# Altium footprint library 电源芯片.PcbLib: 1 footprints
Each footprint in its own frame and in the unit in brackets; x right, y up, seen from the top. Pads: shape width x height; smd on the part's side, far side on the other; paste and mask are expansions set on the pad; w line width, h text height; cw(c..) or ccw(c..) is an arc to the next point about the centre after c.
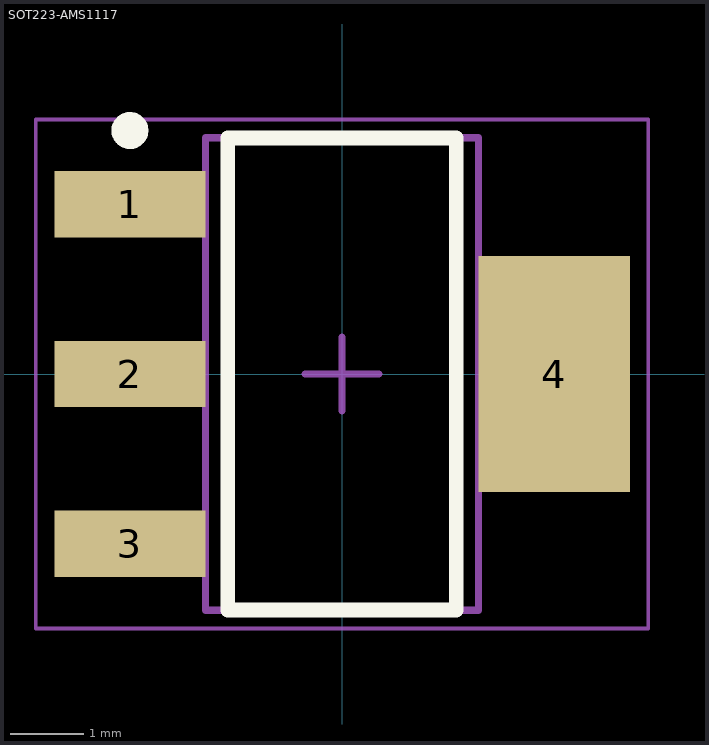
[diagram p0: the footprint, top view; thin cyan lines are the x and y axes]

## SOT223-AMS1117 [mm] "SOT223, 4-Leads, Body 6.30x6.95mm (avg), Pitch 2.30mm, IPC Medium Density"
height 1.8
pads (4):
  rect 2.05x0.9 smd: 1(-2.875,2.3) 2(-2.875,0) 3(-2.875,-2.3)
  rect 2.05x3.2 smd: 4(2.875,0)
Top Overlay:
  circle w0.25: c-2.875,3.3 r0.125
  lines w0.2: -1.55,-3.2 1.55,-3.2 1.55,3.2 -1.55,3.2 -1.55,-3.2
Mechanical 13:
  lines w0.1: -1.85,-3.2 1.85,-3.2 1.85,3.2 -1.85,3.2 -1.85,-3.2
Mechanical 15:
  lines w0.05: -4.15,-3.45 4.15,-3.45 4.15,3.45 -4.15,3.45 -4.15,-3.45
  lines w0.1: -0.5,0 0.5,0 ; 0,-0.5 0,0.5
3D body "SOT223-AMS1117.step": height 1.8, standoff 0, extent -3.475,-3.2 3.475,3.2